# EAGLE library part 5584ИД7 (library std-logic-5584series)
АЕЯР.431200.209 ТУ 5584ИД7У, 5584ИД7АУ- Дешифратор-демультиплексор 3–8 с инверсией на выходе.
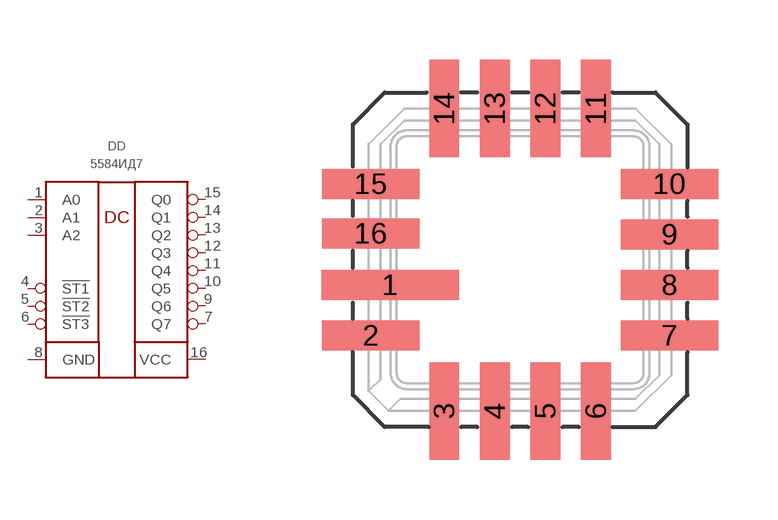
[diagram p4: symbol with the pads of 5119.16-А; footprint 5119.16-А]

Designator prefix DD

## 5584ИД7У  [5119.16-А]
1  A0  in
2  A1  in
3  A2  in
4  !ST1  in
5  !ST2  in
6  !ST3  in
7  Q7  in
8  GND  pwr
9  Q6  in
10  Q5  in
11  Q4  in
12  Q3  in
13  Q2  in
14  Q1  in
15  Q0  in
16  VCC  pwr

## 5584ИД7АУ  [5119.16-А]
Pads as for 5119.16-А

## Footprint 5119.16-А (pad centres in mm)
smd 3.45 x 0.75: 1 -3.26,-0.635
smd 2.45 x 0.75: 2 -3.75,-1.905; 7 3.75,-1.905; 8 3.75,-0.635; 9 3.75,0.635; 10 3.75,1.905; 15 -3.75,1.905; 16 -3.75,0.66
smd 0.75 x 2.45: 3 -1.905,-3.8; 4 -0.635,-3.8; 5 0.635,-3.8; 6 1.905,-3.8; 11 1.905,3.8; 12 0.635,3.8; 13 -0.635,3.8; 14 -1.905,3.8